# EAGLE library part MAX485 (library FansElectronics-MAX)
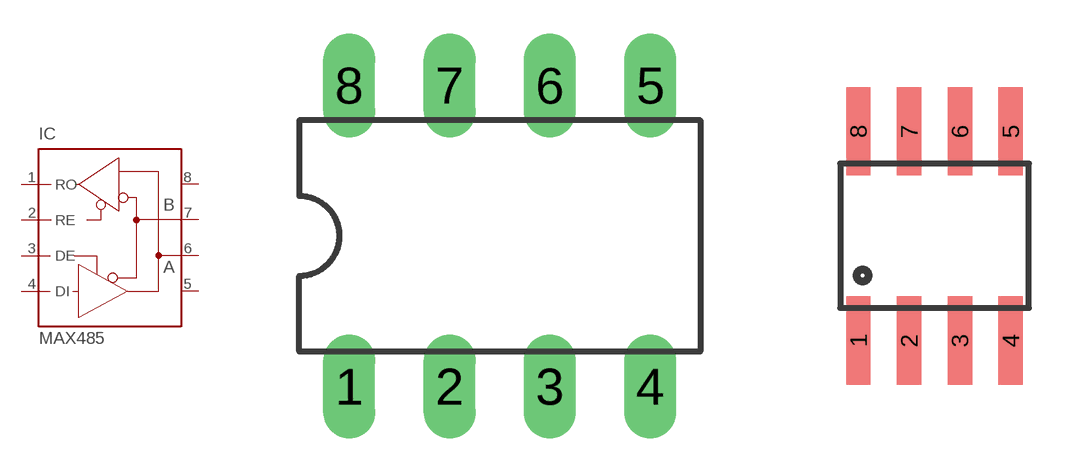
[diagram p1: symbol with the pads of DIL8; footprints DIL8, SO8]

Designator prefix IC

## MAX485-DIL  [DIL8]
1  RO  out
2  RE  in
3  DE  in
4  DI  in
5  GND  pas
6  A  pas
7  B  pas
8  VCC  pas

## MAX485-SMD  [SO8]
Pads as for DIL8

## Footprint DIL8 (pad centres in mm)
drill 0.813 long: 1 -3.81,-3.81; 2 -1.27,-3.81; 3 1.27,-3.81; 4 3.81,-3.81; 5 3.81,3.81; 6 1.27,3.81; 7 -1.27,3.81; 8 -3.81,3.81

## Footprint SO8 (pad centres in mm)
smd 0.61 x 2.21: 1 -1.905,-2.616; 2 -0.635,-2.616; 3 0.635,-2.616; 4 1.905,-2.616; 5 1.905,2.616; 6 0.635,2.616; 7 -0.635,2.616; 8 -1.905,2.616